# EAGLE library part MCP4451-103E/ST (library MCP4451)
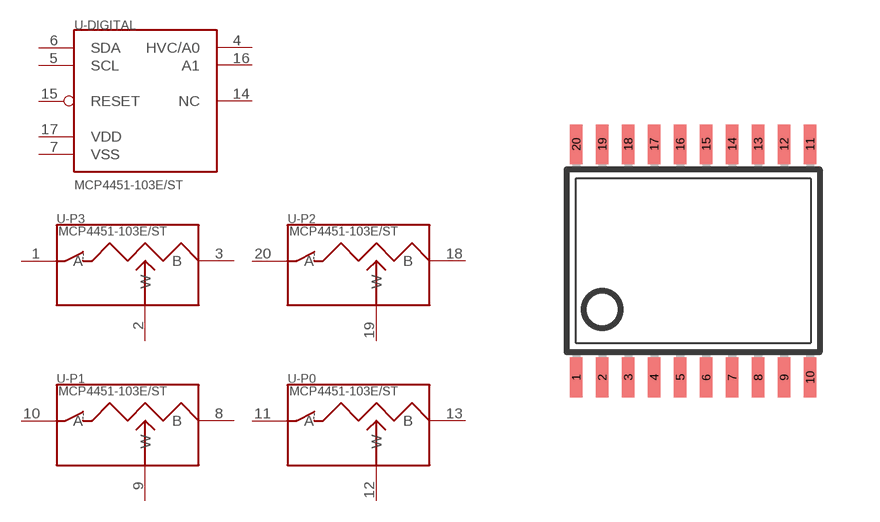
[diagram p0: symbol with the pads of TSSOP20; footprint TSSOP20]

Designator prefix -; gates -DIGITAL=MCP4451-INTERFACE -P3=MCP4451-POTENTIOMETER -P2=MCP4451-POTENTIOMETER -P1=MCP4451-POTENTIOMETER -P0=MCP4451-POTENTIOMETER

## MCP4451-103E/ST  [TSSOP20]
1  -P3:A
2  -P3:W
3  -P3:B
4  -DIGITAL:HVC/A0
5  -DIGITAL:SCL
6  -DIGITAL:SDA
7  -DIGITAL:VSS
8  -P1:B
9  -P1:W
10  -P1:A
11  -P0:A
12  -P0:W
13  -P0:B
14  -DIGITAL:NC
15  -DIGITAL:RESET
16  -DIGITAL:A1
17  -DIGITAL:VDD
18  -P2:B
19  -P2:W
20  -P2:A

## Footprint TSSOP20 (pad centres in mm)
Thin Shrink Small Outline Plastic 20 MAX3223-MAX3243.pdf
smd 0.305 x 0.991: 1 -2.925,-2.918; 2 -2.275,-2.918; 3 -1.625,-2.918; 4 -0.975,-2.918; 5 -0.325,-2.918; 6 0.325,-2.918; 7 0.975,-2.918; 8 1.625,-2.918; 9 2.275,-2.918; 10 2.925,-2.918; 11 2.925,2.918; 12 2.275,2.918; 13 1.625,2.918; 14 0.975,2.918; 15 0.325,2.918; 16 -0.325,2.918; 17 -0.975,2.918; 18 -1.625,2.918; 19 -2.275,2.918; 20 -2.925,2.918